# Altium integrated library LM27313.IntLib: 8 symbols
Pins are listed as number, name and electrical type; pins without a type are passive.

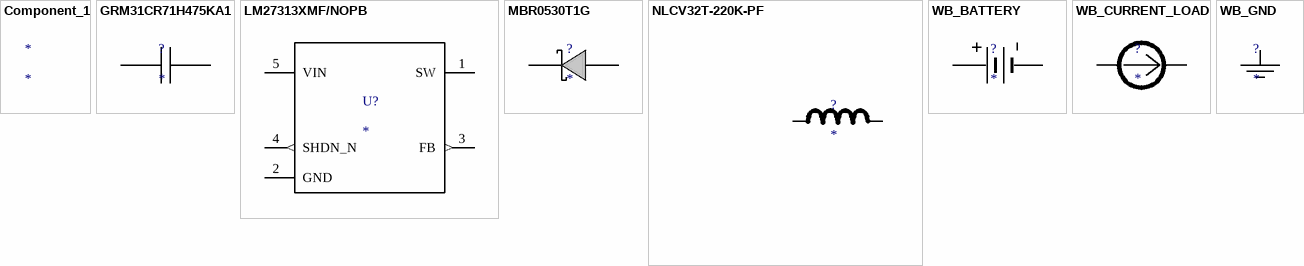
[diagram p0: symbols Component_1 to WB_GND]

## Component_1
designator *

## GRM31CR71H475KA1
designator ?
Imported; Manufacturer_Part_Number: GRM31CR71H475KA12L; Vendor: MuRata; Manufacturer_Name: MuRata; RefDes: RefDes; Type: DEV; Value: Value
footprint 1206
pins: 1, 2

## LM27313XMF/NOPB
designator U?
Imported; PartNumber: LM27313XQMF/NOPB; Manufacturer: Texas Instruments; Manufacturer_Part_Number: LM27313XMF/NOPB; CompType: IC; PIN_COUNT: 5; PackageReference: DBV0005A; MountType: SMT; RoHS: Y; Manufacturer_Name: Texas Instruments; RefDes: RefDes; Type: DEV; Value: Value
footprint DBV0005A
pins: 1 SW (power), 2 GND (power), 3 FB (out), 4 SHDN_N (out), 5 VIN (power)

## MBR0530T1G
designator ?
Imported; Manufacturer_Part_Number: MBR0530T1G; Vendor: ON Semiconductor; Datasheet URL: http://www.onsemi.com/pub%5Flink/Collateral/MBR0530T1%2DD.PDF; Manufacturer_Name: ON Semiconductor; RefDes: RefDes; Type: DEV; Value: Value
footprint SOD-123
pins: 1 K, 2 A

## NLCV32T-220K-PF
designator ?
Imported; Manufacturer_Part_Number: NLCV32T-220K-PF; Vendor: TDK; Manufacturer_Name: TDK; RefDes: RefDes; Type: DEV; Value: Value
footprint NLCV32
pins: 1, 2

## WB_BATTERY
designator ?
Imported; Manufacturer_Part_Number: WB_BATTERY; PowerPortType: POWER_GROUND; Value: Value; Manufacturer_Name: WB_BATTERY; RefDes: RefDes; Type: TYPE
pins: 1 +, 2 -

## WB_CURRENT_LOAD
designator ?
Imported; Manufacturer_Part_Number: WB_CURRENT_LOAD; PowerPortType: POWER_GROUND; Value: Value; Manufacturer_Name: WB_CURRENT_LOAD; RefDes: RefDes; Type: TYPE
pins: 1 +, 2 -

## WB_GND
designator ?
Imported; Manufacturer_Part_Number: WB_GND; PowerPortType: POWER_GROUND; Value: Value; Manufacturer_Name: WB_GND; RefDes: RefDes; Type: TYPE
pins: 1